# Altium schematic symbol library Capacitors_TH.SchLib: 1 symbol
Pins are listed as number, name and electrical type; pins without a type are passive.

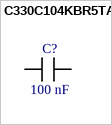
[diagram p0: symbol C330C104KBR5TA]

## C330C104KBR5TA
designator C?  value 100 nF  (hidden comment: C330C104KBR5TA)
100 nF X7R 100v Mil; Votage: 50V; Tollerance: 10%; Tecnology: X7R
footprint 3.08mm
pins: 1, 2